# Altium footprint library CUI_PJ-042H.PcbLib: 1 footprints
Each footprint in its own frame and in the unit in brackets; x right, y up, seen from the top. Pads: shape width x height; smd on the part's side, far side on the other; paste and mask are expansions set on the pad; w line width, h text height; cw(c..) or ccw(c..) is an arc to the next point about the centre after c.
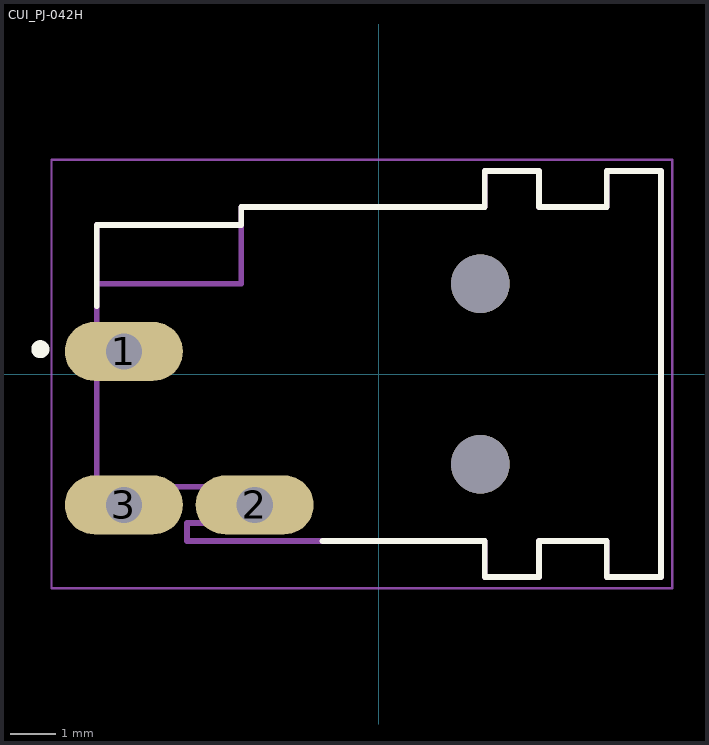
[diagram p0: the footprint, top view; thin cyan lines are the x and y axes]

## CUI_PJ-042H [mm]
pads (5):
  oval 2.616x1.308 hole 0.8 square: 1(-5.65,0.5) 2(-2.75,-2.9) 3(-5.65,-2.9)
  round 1.3 hole 1.3 unplated: ""(2.25,-2) ""(2.25,2)
Top Overlay:
  circle w0.2: c-7.5,0.55 r0.1
  lines w0.127: -6.25,1.5 -6.25,3.3 -3.05,3.3 -3.05,3.7 2.35,3.7 2.35,4.5 3.55,4.5 3.55,3.7 5.05,3.7 5.05,4.5 6.25,4.5 6.25,-4.5 5.05,-4.5 5.05,-3.7 3.55,-3.7 3.55,-4.5 2.35,-4.5 2.35,-3.7 -1.25,-3.7
Mechanical 13:
  lines w0.127: -6.25,2 -6.25,-2.5 -1.95,-2.5 -1.95,-3.3 -4.25,-3.3 -4.25,-3.7 2.35,-3.7 2.35,-4.5 3.55,-4.5 3.55,-3.7 5.05,-3.7 5.05,-4.5 6.25,-4.5 6.25,4.5 5.05,4.5 5.05,3.7 3.55,3.7 3.55,4.5 2.35,4.5 2.35,3.7 -3.05,3.7 -3.05,3.3 ; -6.25,2 -6.25,3.3 -3.05,3.3 ; -6.25,2 -3.05,2 -3.05,3.3
Mechanical 15:
  lines w0.05: -7.25,-4.75 6.5,-4.75 6.5,4.75 -7.25,4.75 -7.25,-4.75